# Altium schematic symbol library Inductores.SchLib: 2 symbols
Pins are listed as number, name and electrical type; pins without a type are passive.

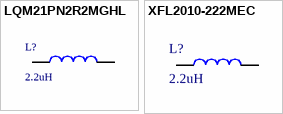
[diagram p0: symbols LQM21PN2R2MGHL to XFL2010-222MEC]

## LQM21PN2R2MGHL
designator L?, comment 2.2uH
Inductores de potencia - SMD 2.2 UH 20%; Manufacturer: Murata Electronics; Manufacturer Part Number: LQM21PN2R2MGHL; Category: Inductor; Value: 2.2uH; Datasheet: https://ar.mouser.com/datasheet/2/281/1/JELF243B_0040-961444.pdf
footprint LQM21PN2R2MGHL
pins: 1, 2

## XFL2010-222MEC
designator L?, comment 2.2uH
Power Inductors - SMD 2.2uH 90MHz DCR=.156Ohms +/-20% AEC-Q200; Manufacturer: Coilcraft; Manufacturer Part Number: XFL2010-222MEC; Category: Inductor; Value: 2.2uH; Datasheet: https://www.coilcraft.com/getmedia/50382b97-998f-4b75-b5ee-4a93b0ac4411/xfl2010.pdf
footprint XFL2010-222MEC
pins: 1, 2